# EAGLE library part LMH6724MAX (library LMH6724)
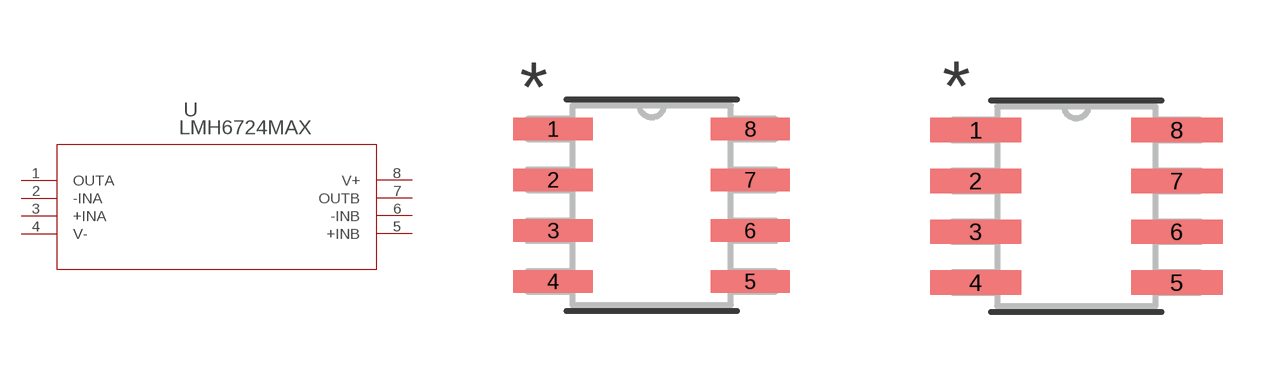
[diagram p0: symbol with the pads of M08A; footprints M08A, M08A-M]

Designator prefix U

## LMH6724MAX (MANUFACTURER_PART_NUMBER: LMH6724MAX; VENDOR: Texas Instruments)  [M08A]
1  OUTA  out
2  -INA  in
3  +INA  in
4  V-  pas
5  +INB  in
6  -INB  in
7  OUTB  out
8  V+  pas

## LMH6724MAXM08A-M (MANUFACTURER_PART_NUMBER: LMH6724MAX; VENDOR: Texas Instruments)  [M08A-M]
Pads as for M08A

## LMH6724MAXM08A-L (MANUFACTURER_PART_NUMBER: LMH6724MAX; VENDOR: Texas Instruments)  [M08A-L]
Pads as for M08A

## Footprint M08A (pad centres in mm)
smd 1.981 x 0.559: 1 -2.464,1.905; 2 -2.464,0.635; 3 -2.464,-0.635; 4 -2.464,-1.905; 5 2.464,-1.905; 6 2.464,-0.635; 7 2.464,0.635; 8 2.464,1.905

## Footprint M08A-M (pad centres in mm)
smd 2.286 x 0.61: 1 -2.515,1.905; 2 -2.515,0.635; 3 -2.515,-0.635; 4 -2.515,-1.905; 5 2.515,-1.905; 6 2.515,-0.635; 7 2.515,0.635; 8 2.515,1.905

## Footprint M08A-L (pad centres in mm)
smd 1.676 x 0.508: 1 -2.413,1.905; 2 -2.413,0.635; 3 -2.413,-0.635; 4 -2.413,-1.905; 5 2.413,-1.905; 6 2.413,-0.635; 7 2.413,0.635; 8 2.413,1.905